# Altium schematic symbol library DF40.SchLib: 6 symbols
Pins are listed as number, name and electrical type; pins without a type are passive.

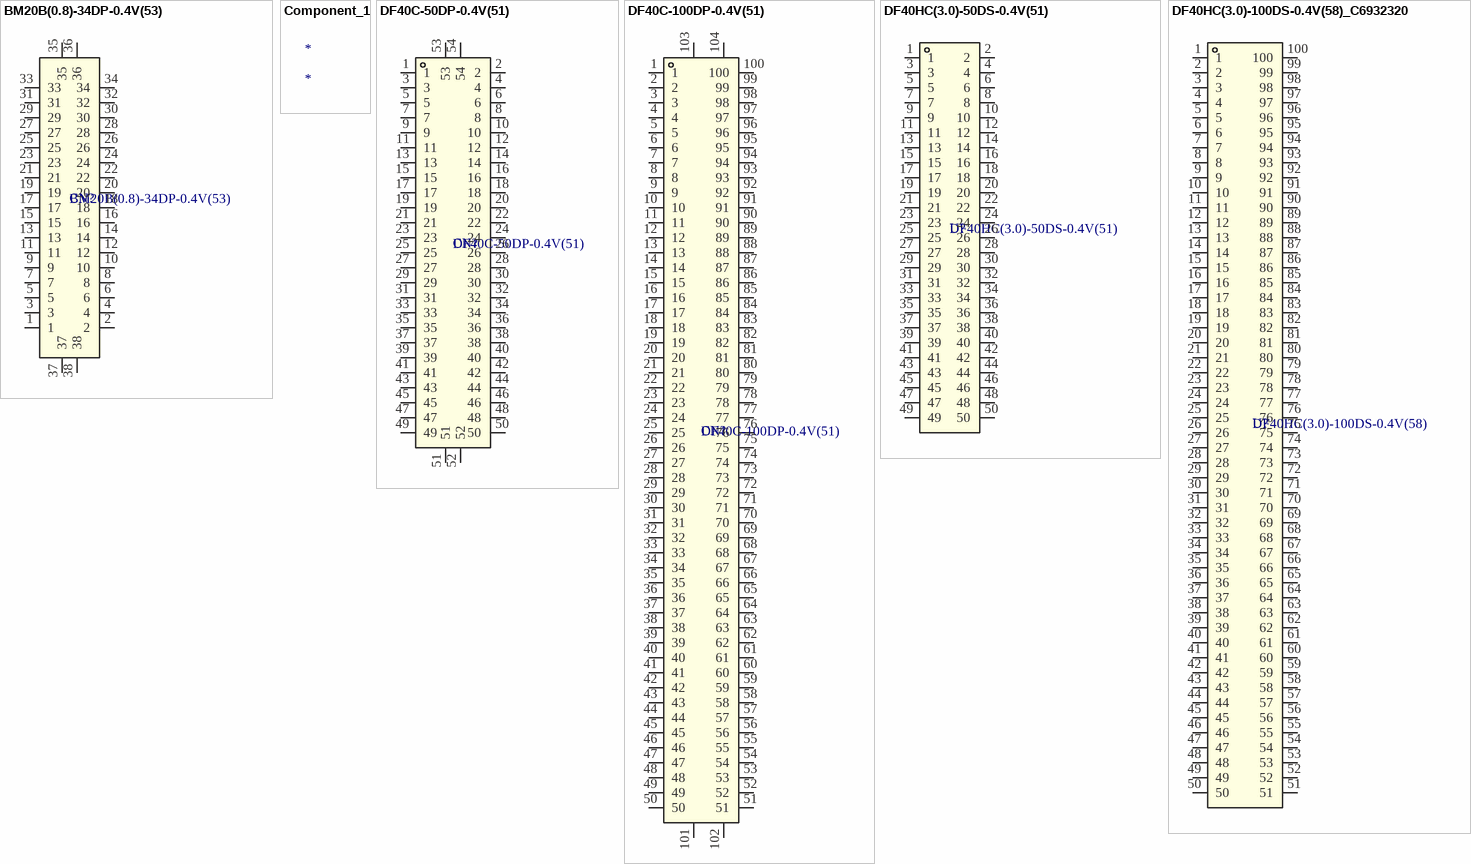
[diagram p0: symbols BM20B(0.8)-34DP-0.4V(53) to DF40HC(3.0)-100DS-0.4V(58)_C6932320]

## BM20B(0.8)-34DP-0.4V(53)
designator CN?
BM20B(0.8)-34DP-0.4V(53) CONN-SMD_34P-P0.40_BM20B-0.8-34DP-0.4V-51; SEEX_AUTHOR: ref42; SEEX_COMPONENT_ID: C3652174; SEEX_PROJECT_URL: https://github.com/ref42/seex; Footprint: BM20B(0.8)-34DP-0.4V(53); LCSC Part Name: BM20B(0.8)-34DP-0.4V(53) CONN-SMD_34P-P0.40_BM20B-0.8-34DP-0.4V-51; Manufacturer Part: BM20B(0.8)-34DP-0.4V(53); Supplier: LCSC; Supplier Part: C3652174
footprint BM20B(0.8)-34DP-0.4V(53) (BM20B(0.8)-34DP-0.4V(53) CONN-SMD_34P-P0.40_BM20B-0.8-34DP-0.4V-51)
pins: 1, 2, 3, 4, 5, 6, 7, 8, 9, 10, 11, 12, 13, 14, 15, 16, 17, 18, 19, 20, 21, 22, 23, 24, 25, 26, 27, 28, 29, 30, 31, 32, 33, 34, 35, 36, 37, 38

## Component_1
designator *

## DF40C-50DP-0.4V(51)
designator CN?
PIN总数:50P;间距:0.4mm;安装方式:立贴;排数:2;额定电流:300mA;工作温度:-35℃~+85℃;; Manufacturer: HRS(广濑); SEEX_AUTHOR: ref42; SEEX_COMPONENT_ID: C424645; Connection Type: 槽型对接; Current Rating: 300mA; Pitch: 0.4mm; SEEX_PROJECT_URL: https://github.com/ref42/seex; Footprint: CONN-SMD_DF40C-50DP-0.4V; Contact Plating: 金; Datasheet: https://item.szlcsc.com/datasheet/DF40C-50DP-0.4V(51)/418162.html; JLCPCB Part Class: Extended Part; LCSC Part Name: PIN:50P 间距:0.4mm 立贴; Manufacturer Part: DF40C-50DP-0.4V(51); Mounting Type: 立贴; Number of Pins: 50P; Number of Rows: 2; Operating Temperature: -35℃~+85℃; Supplier: LCSC; Supplier Footprint: SMD,P=0.4mm; Supplier Part: C424645
footprint CONN-SMD_DF40C-50DP-0.4V (SMD,P=0.4mm)
pins: 1, 2, 3, 4, 5, 6, 7, 8, 9, 10, 11, 12, 13, 14, 15, 16, 17, 18, 19, 20, 21, 22, 23, 24, 25, 26, 27, 28, 29, 30, 31, 32, 33, 34, 35, 36, 37, 38, 39, 40, 41, 42, 43, 44, 45, 46, 47, 48, 49, 50, 51, 52, 53, 54

## DF40C-100DP-0.4V(51)
designator CN?
PIN总数:100P;间距:0.4mm;安装方式:立贴;排数:2;额定电流:300mA;工作温度:-35℃~+85℃;; Manufacturer: HRS(广濑); SEEX_AUTHOR: ref42; SEEX_COMPONENT_ID: C531031; Connection Type: 槽型对接; Current Rating: 300mA; Pitch: 0.4mm; SEEX_PROJECT_URL: https://github.com/ref42/seex; Footprint: CONN-SMD_100P-P0.40_DF40C-100DP-0.4V-51; Contact Plating: 金; Datasheet: https://item.szlcsc.com/datasheet/DF40C-100DP-0.4V(51)/551276.html; JLCPCB Part Class: Extended Part; LCSC Part Name: PIN:100P 间距:0.4mm 立贴; Manufacturer Part: DF40C-100DP-0.4V(51); Mounting Type: 立贴; Number of Pins: 100P; Number of Rows: 2; Operating Temperature: -35℃~+85℃; Supplier: LCSC; Supplier Footprint: SMD,P=0.4mm; Supplier Part: C531031
footprint CONN-SMD_100P-P0.40_DF40C-100DP-0.4V-51 (SMD,P=0.4mm)
pins: 1, 2, 3, 4, 5, 6, 7, 8, 9, 10, 11, 12, 13, 14, 15, 16, 17, 18, 19, 20, 21, 22, 23, 24, 25, 26, 27, 28, 29, 30, 31, 32, 33, 34, 35, 36, 37, 38, 39, 40, 41, 42, 43, 44, 45, 46, 47, 48, 49, 50, 51, 52, 53, 54, 55, 56, 57, 58, 59, 60, 61, 62, 63, 64, 65, 66, 67, 68, 69, 70, 71, 72, 73, 74, 75, 76, 77, 78, 79, 80, 81, 82, 83, 84, 85, 86, 87, 88, 89, 90, 91, 92, 93, 94, 95, 96, 97, 98, 99, 100, 101, 102, 103, 104

## DF40HC(3.0)-50DS-0.4V(51)
designator U?
PIN总数:50P;间距:0.4mm;安装方式:立贴;排数:2;额定电流:300mA;工作温度:-35℃~+85℃;; Manufacturer: HRS(广濑); SEEX_AUTHOR: ref42; SEEX_COMPONENT_ID: C3652838; Connection Type: 槽型对接; Current Rating: 300mA; Pitch: 0.4mm; SEEX_PROJECT_URL: https://github.com/ref42/seex; Footprint: CONN-SMD_50P-P0.40_DF40HC-3.0-50DS-0.4V-51; Contact Plating: 金; Datasheet: https://item.szlcsc.com/datasheet/DF40HC(3.0)-50DS-0.4V(51)/4220635.html; JLCPCB Part Class: Extended Part; LCSC Part Name: PIN:50P 间距:0.4mm 立贴; Manufacturer Part: DF40HC(3.0)-50DS-0.4V(51); Mounting Type: 立贴; Number of Pins: 50P; Number of Rows: 2; Operating Temperature: -35℃~+85℃; Supplier: LCSC; Supplier Footprint: SMD,P=0.4mm; Supplier Part: C3652838
footprint CONN-SMD_50P-P0.40_DF40HC-3.0-50DS-0.4V-51 (SMD-50P; SMD,P=0.4mm)
pins: 1, 2, 3, 4, 5, 6, 7, 8, 9, 10, 11, 12, 13, 14, 15, 16, 17, 18, 19, 20, 21, 22, 23, 24, 25, 26, 27, 28, 29, 30, 31, 32, 33, 34, 35, 36, 37, 38, 39, 40, 41, 42, 43, 44, 45, 46, 47, 48, 49, 50

## DF40HC(3.0)-100DS-0.4V(58)_C6932320
designator U?, comment DF40HC(3.0)-100DS-0.4V(58)
PIN总数:100P;间距:0.4mm;安装方式:立贴;排数:2;额定电流:300mA;工作温度:-35℃~+85℃;; Manufacturer: HRS(广濑); SEEX_AUTHOR: ref42; SEEX_COMPONENT_ID: C6932320; Connection Type: 槽型对接; Current Rating: 300mA; Pitch: 0.4mm; Voltage Rating: 30V; SEEX_PROJECT_URL: https://github.com/ref42/seex; Footprint: CONN-SMD_DF40HC-3.0-100DS-0.4V-51; Contact Plating: 金; Datasheet: https://item.szlcsc.com/datasheet/DF40HC(3.0)-100DS-0.4V(58)/7897625.html; JLCPCB Part Class: Extended Part; LCSC Part Name: PIN:100P 间距:0.4mm 立贴; Manufacturer Part: DF40HC(3.0)-100DS-0.4V(58); Mounting Type: 立贴; Number of Pins: 100P; Number of Rows: 2; Operating Temperature: -35℃~+85℃; Supplier: LCSC; Supplier Footprint: SMD,P=0.4mm; Supplier Part: C6932320
footprint CONN-SMD_DF40HC-3.0-100DS-0.4V-51 (SMD,P=0.4mm; RasPi-CM4; CONN-SMD; CONN-SMD-2*50P)
pins: 1, 2, 3, 4, 5, 6, 7, 8, 9, 10, 11, 12, 13, 14, 15, 16, 17, 18, 19, 20, 21, 22, 23, 24, 25, 26, 27, 28, 29, 30, 31, 32, 33, 34, 35, 36, 37, 38, 39, 40, 41, 42, 43, 44, 45, 46, 47, 48, 49, 50, 51, 52, 53, 54, 55, 56, 57, 58, 59, 60, 61, 62, 63, 64, 65, 66, 67, 68, 69, 70, 71, 72, 73, 74, 75, 76, 77, 78, 79, 80, 81, 82, 83, 84, 85, 86, 87, 88, 89, 90, 91, 92, 93, 94, 95, 96, 97, 98, 99, 100